# Altium footprint library Vishay Telefunken Footprints.PcbLib: 6 footprints
Each footprint in its own frame and in the unit in brackets; x right, y up, seen from the top. Pads: shape width x height; smd on the part's side, far side on the other; paste and mask are expansions set on the pad; w line width, h text height; cw(c..) or ccw(c..) is an arc to the next point about the centre after c.
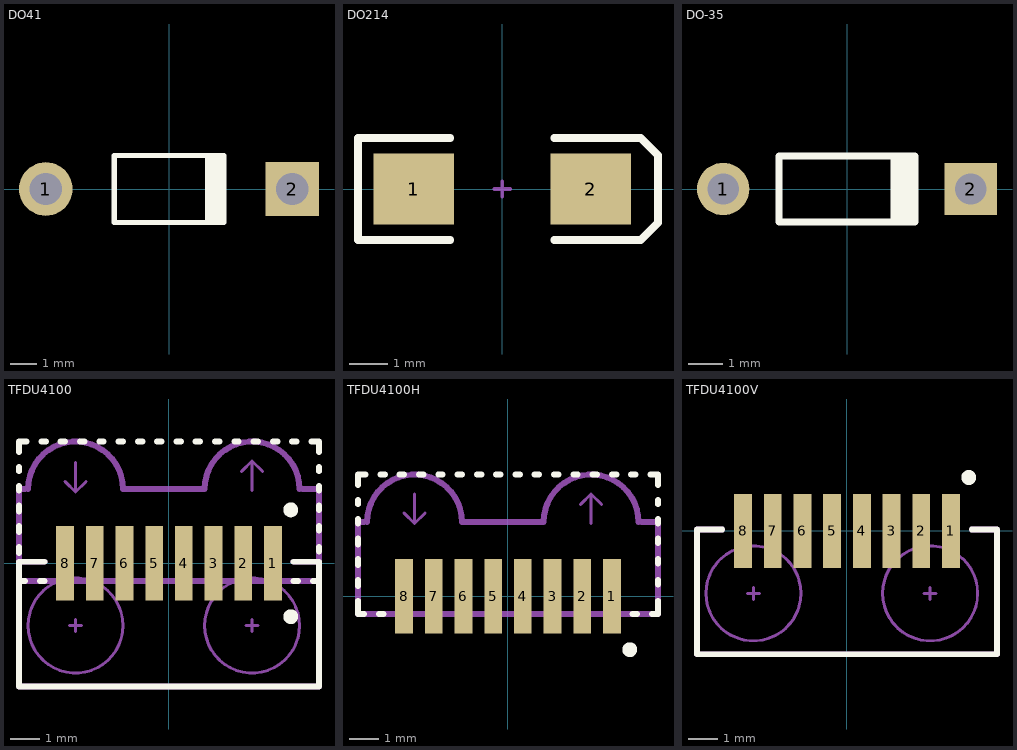
[diagram p0: the footprints below, top view; thin cyan lines are the x and y axes]

## DO41 [mm] "Diode, Axial; Body 4.1 x 2.5 mm (LxDia. max), Lead Dia. 0.85 mm (max)"
height 2.5
pads (2):
  round 2 hole 1.2: 1(-4.6,0)
  rect 2x2 hole 1.2: 2(4.6,0)
Top Overlay:
  rectangle: 1.35,-1.25 2.15,1.25
  lines w0.2: 2.05,-1.25 -2.05,-1.25 -2.05,1.25 2.05,1.25

## DO214 [mm] "DO-214-AC/SMA; 2 C-Bend Leads; Body 5.3 x 2.6 mm, inc. leads (LxW)"
height 2.3
pads (2):
  rect 2.1x1.85 smd: 1(-2.3,0) 2(2.3,0)
Top Overlay:
  lines w0.2: -1.35,-1.325 -3.75,-1.325 -3.75,1.325 -1.35,1.325 ; 1.35,-1.325 3.6,-1.325 4.05,-0.875 4.05,0.875 3.6,1.325 1.35,1.325
Mechanical 1:
  lines w0.1: -0.2,0 0.2,0 ; 0,-0.2 0,0.2

## DO-35 [mm] "Diode, Axial; Body 3.9 x 1.7 mm (LxDia. max), Lead Dia. 0.55 mm (max)"
height 1.7
pads (2):
  round 1.5 hole 0.9: 1(-3.55,0)
  rect 1.5x1.5 hole 0.9: 2(3.55,0)
Top Overlay:
  rectangle: 1.25,-0.95 2.05,0.95
  lines w0.2: 1.95,-0.95 -1.95,-0.95 -1.95,0.95 1.95,0.95

## TFDU4100 [mm] "IrDA Transceiver; SM; 8 Leads; Body 10.1 x 4.02 x4.70 (LxWxH max)"
height 4.7
pads (8):
  rect 0.6x2.5 smd: 1(3.5,0) 2(2.5,0) 3(1.5,0) 4(0.5,0) 5(-0.5,0) 6(-1.5,0) 7(-2.5,0) 8(-3.5,0)
Top Overlay:
  circle w0.25: c4.1,1.8 r0.125
  circle w0.25: c4.1,-1.8 r0.125
  lines w0.2: -5.05,-0.15 -5.055,-0.595 -4.85,-0.6 -5,-0.6 ; -5.05,0 -5.05,0.05 ; -5.05,0.35 -5.05,0.55 ; -5.05,1.05 -5.05,1.25 ; -5.05,2.45 -5.05,2.6 ; -5.05,3.1 -5.05,3.25 ; -5.05,3.75 -5.05,4.1 -4.8,4.1 ; -4.35,-0.6 -4.2,-0.6 ; -4.3,4.1 -4.15,4.1 ; -4.2,0.05 -5.05,0.05 ; -3.65,4.1 -3.5,4.1 ; -3,4.1 -2.85,4.1 ; -2.35,4.1 -2.2,4.1 ; -1.7,4.1 -1.55,4.1 ; -1.05,4.1 -0.9,4.1 ; -0.4,4.1 -0.25,4.1 ; 0.25,4.1 0.4,4.1 ; 0.9,4.1 1.05,4.1 ; 1.55,4.1 1.7,4.1 ; 2.2,4.1 2.35,4.1 ; 2.85,4.1 3,4.1 ; 3.5,4.1 3.65,4.1 ; 4.15,4.1 4.3,4.1 ; 4.2,-0.6 4.35,-0.6 ; 4.2,0.05 5.05,0.05 ; 4.8,4.1 5.05,4.1 5.05,3.75 ; 5.05,-0.15 5.055,-0.595 ; 5.05,0.4 5.05,0.55 ; 5.05,1.1 5.05,1.25 ; 5.05,1.8 5.05,1.95 ; 5.05,2.45 5.05,2.6 ; 5.05,3.1 5.05,3.25 ; -5.05,0.05 -5.05,-4.15 5.05,-4.15 5.05,0.05 ; 5.05,0.05 5.05,0.05 ; -5.05,1.75 -5.05,1.95 -5.05,1.75 ; 4.85,-0.6 5,-0.6 4.85,-0.6
Mechanical 1:
  circle w0.1: c2.8,-2.1 r1.6
  circle w0.1: c-3.15,-2.1 r1.6
  lines w0.1: -3.5,2.75 -3.15,2.4 ; -3.35,-2.1 -2.95,-2.1 ; -3.15,-2.3 -3.15,-1.9 ; -3.15,3.4 -3.15,2.4 ; -2.8,2.75 -3.15,2.4 ; 2.45,3.1 2.8,3.45 ; 2.6,-2.1 3,-2.1 ; 2.8,-2.3 2.8,-1.9 ; 2.8,2.45 2.8,3.45 ; 3.15,3.1 2.8,3.45
  lines w0.2: -4.85,2.5 -5.05,2.5 -5.05,-0.6 5.05,-0.6 5.05,2.5 4.5,2.5 ; -4.75,2.5 cw(c-3.15,2.5) -1.55,2.5 1.2,2.5 cw(c2.8,2.5) 4.4,2.5 ; -4.2,0.05 -5.05,0.05 -5.05,-4.15 5.05,-4.15 5.05,0.05 4.2,0.05
  text "Tx" at 2.65,-3 h0.25
  text "Rx" at -3.3,-3 h0.25

## TFDU4100H [mm] "IrDA Transceiver; SM; Right-Angle Mount; 8 Leads; Body 10.1 x 4.70 x 4.02 (LxWxH max)"
height 4.02
pads (8):
  rect 0.6x2.5 smd: 1(3.5,0) 2(2.5,0) 3(1.5,0) 4(0.5,0) 5(-0.5,0) 6(-1.5,0) 7(-2.5,0) 8(-3.5,0)
Top Overlay:
  circle w0.25: c4.1,-1.8 r0.125
  lines w0.2: -5.05,-0.15 -5.055,-0.595 -4.85,-0.6 ; -5.05,0.35 -5.05,0.55 ; -5.05,1.05 -5.05,1.25 ; -5.05,1.75 -5.05,1.95 ; -5.05,2.45 -5.05,2.6 ; -5.05,3.1 -5.05,3.25 ; -5.05,3.75 -5.05,4.1 -4.8,4.1 ; -4.35,-0.6 -4.2,-0.6 ; -4.3,4.1 -4.15,4.1 ; -3.65,4.1 -3.5,4.1 ; -3,4.1 -2.85,4.1 ; -2.35,4.1 -2.2,4.1 ; -1.7,4.1 -1.55,4.1 ; -1.05,4.1 -0.9,4.1 ; -0.4,4.1 -0.25,4.1 ; 0.25,4.1 0.4,4.1 ; 0.9,4.1 1.05,4.1 ; 1.55,4.1 1.7,4.1 ; 2.2,4.1 2.35,4.1 ; 2.85,4.1 3,4.1 ; 3.5,4.1 3.65,4.1 ; 4.15,4.1 4.3,4.1 ; 4.2,-0.6 4.35,-0.6 ; 4.8,4.1 5.05,4.1 5.05,3.75 ; 4.85,-0.6 5,-0.6 ; 5.05,-0.15 5.055,-0.595 ; 5.05,0.4 5.05,0.55 ; 5.05,1.1 5.05,1.25 ; 5.05,1.8 5.05,1.95 ; 5.05,2.45 5.05,2.6 ; 5.05,3.1 5.05,3.25
Mechanical 1:
  lines w0.1: -3.5,2.8 -3.15,2.45 ; -3.15,3.45 -3.15,2.45 ; -2.8,2.8 -3.15,2.45 ; 2.45,3.1 2.8,3.45 ; 2.8,2.45 2.8,3.45 ; 3.15,3.1 2.8,3.45
  lines w0.2: -4.85,2.5 -5.05,2.5 -5.05,-0.6 5.05,-0.6 5.05,2.5 4.5,2.5 ; -4.75,2.5 cw(c-3.15,2.5) -1.55,2.5 1.2,2.5 cw(c2.8,2.5) 4.4,2.5

## TFDU4100V [mm] "IrDA Transceiver; SM; Vertical Mount; 8 Leads; Body 10.1 x 4.02 x4.70 (LxWxH max)"
height 4.7
pads (8):
  rect 0.6x2.5 smd: 1(3.5,0) 2(2.5,0) 3(1.5,0) 4(0.5,0) 5(-0.5,0) 6(-1.5,0) 7(-2.5,0) 8(-3.5,0)
Top Overlay:
  circle w0.25: c4.1,1.8 r0.125
  lines w0.2: -5.05,0 -5.05,0.05 ; -4.2,0.05 -5.05,0.05 ; 4.2,0.05 5.05,0.05 ; -5.05,0.05 -5.05,-4.15 5.05,-4.15 5.05,0.05 ; 5.05,0.05 5.05,0.05
Mechanical 1:
  circle w0.1: c-3.15,-2.1 r1.6
  circle w0.1: c2.8,-2.1 r1.6
  lines w0.1: -3.35,-2.1 -2.95,-2.1 ; -3.15,-2.3 -3.15,-1.9 ; 2.6,-2.1 3,-2.1 ; 2.8,-2.3 2.8,-1.9
  lines w0.2: -4.2,0.05 -5.05,0.05 -5.05,-4.15 5.05,-4.15 5.05,0.05 4.2,0.05
  text "Rx" at -3.3,-3 h0.25
  text "Tx" at 2.65,-3 h0.25